# Altium footprint library WA-BCPH.PcbLib: 4 footprints
Each footprint in its own frame and in the unit in brackets; x right, y up, seen from the top. Pads: shape width x height; smd on the part's side, far side on the other; paste and mask are expansions set on the pad; w line width, h text height; cw(c..) or ccw(c..) is an arc to the next point about the centre after c.
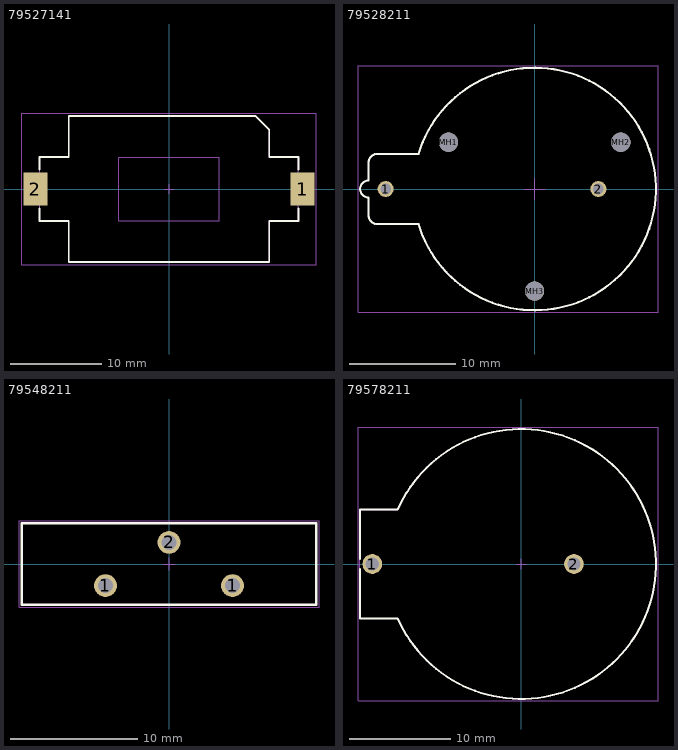
[diagram p0: the footprints below, top view; thin cyan lines are the x and y axes]

## 79527141 [mm] "Battery Holder"
height 5.65
pads (2):
  rect 2.6x3.6 smd: 1(14.65,0) 2(-14.65,0)
Top Overlay:
  lines w0.2: -14.2,-2.15 -14.2,-3.5 -11,-3.5 -11,-8 11,-8 11,-3.5 14.2,-3.5 14.2,-2.15 ; -14.2,2.15 -14.2,3.5 -11,3.5 -11,8 9.5,8 11,6.5 11,3.5 14.2,3.5 14.2,2.15
Notes:
  lines w0.1: 1.5,3.5 5.5,3.5 ; 5.5,3.5 -5.5,3.5 -5.5,-3.5 5.5,-3.5 5.5,3.5
  text "ZONE FOR ADHESIVE FIXATION" at -7,-4.989 h1
Top Designator:
  text ".Designator" at -7.498,-0.5 h1.5
Top Component Outline:
  lines w0.1: -14.2,-3.5 -14.2,3.5 -11,3.5 -11,8 9.5,8 11,6.5 11,3.5 14.2,3.5 14.2,-3.5 11,-3.5 11,-8 -11,-8 -11,-3.5 -14.2,-3.5
Top 3D Body:
  lines w0.1: -14.2,-3.5 -11,-3.5 -11,-8 11,-8 11,-3.5 14.2,-3.5 14.2,3.5 11,3.5 11,6.5 9.5,8 -11,8 -11,3.5 -14.2,3.5 -14.2,-3.5
Top Courtyard:
  lines w0.05: -0.5,0 0.5,0 ; 0,-0.5 0,0.5 ; -16.15,-8.3 16.15,-8.3 16.15,8.3 -16.15,8.3 -16.15,-8.3
Top Glue Points:
  lines w0.1: 1.5,3.5 5.5,3.5 ; 5.5,3.5 -5.5,3.5 -5.5,-3.5 5.5,-3.5 5.5,3.5
3D body "79527141 (rev1).stp": height 5.66, standoff 0.01, extent -15.95,-8 15.95,8

## 79528211 [mm] "Battery Holder"
height 8.8
pads (5):
  round 1.5 hole 1: 1(-14,0) 2(6,0)
  round 1.8 hole 1.8 unplated: MH1(-8.1,4.4) MH2(8.1,4.4) MH3(0,-9.6)
Top Overlay:
  lines w0.2: -10.912,-3.3 ccw(c-10.912,-3.3) -10.912,-3.3 ; -10.912,-3.3 ccw(c0,0) -10.912,3.3 ; -10.912,-3.3 -14.8,-3.3 cw(c-14.8,-2.5) -15.6,-2.5 -15.6,-0.8 cw(c-15.6,0) -15.6,0.8 -15.6,2.5 cw(c-14.8,2.5) -14.8,3.3 -10.912,3.3 ; -10.912,3.3 ccw(c-10.912,3.3) -10.912,3.3
Top Designator:
  text ".Designator" at -7.498,-0.5 h1.5
Top Component Outline:
  lines w0.1: -10.912,-3.3 ccw(c-10.912,-3.3) -10.912,-3.3 ; -10.912,-3.3 ccw(c0,0) -10.912,3.3 ; -10.912,-3.3 -14.8,-3.3 cw(c-14.8,-2.5) -15.6,-2.5 -15.6,-0.8 cw(c-15.6,0) -15.6,0.8 -15.6,2.5 cw(c-14.8,2.5) -14.8,3.3 -10.912,3.3 ; -10.912,3.3 ccw(c-10.912,3.3) -10.912,3.3
Top 3D Body:
  lines w0.1: -10.912,-3.3 ccw(c-10.912,-3.3) -10.912,-3.3 ; -10.912,-3.3 ccw(c0,0) -10.912,3.3 ; -10.912,-3.3 -14.8,-3.3 cw(c-14.8,-2.5) -15.6,-2.5 -15.6,-0.8 cw(c-15.6,0) -15.6,0.8 -15.6,2.5 cw(c-14.8,2.5) -14.8,3.3 -10.912,3.3 ; -10.912,3.3 ccw(c-10.912,3.3) -10.912,3.3
Top Courtyard:
  lines w0.05: -16.6,-11.6 -16.6,11.6 11.6,11.6 11.6,-11.6 -16.6,-11.6
  lines w0.1: -1,0 1,0 ; 0,-1 0,1
3D body "79528211 (rev1).stp": height 8.5, standoff -3.3, extent -16.4,-11.4 11.4,11.4

## 79548211 [mm] "Battery Holder"
height 18.1
pads (3):
  round 1.8 hole 1.2: 1(-5,-1.7) 1(5,-1.7) 2(0,1.7)
Top Overlay:
  lines w0.2: -11.6,-3.2 -11.6,3.2 11.6,3.2 11.6,-3.2 -11.6,-3.2
Top Designator:
  text ".Designator" at -7.498,-0.5 h1.5
Top Component Outline:
  lines w0.1: -11.6,-3.2 11.6,-3.2 11.6,3.2 -11.6,3.2 -11.6,-3.2
Top 3D Body:
  lines w0.1: -11.6,-3.2 -11.6,3.2 11.6,3.2 11.6,-3.2 -11.6,-3.2
Top Courtyard:
  lines w0.05: -0.5,0 0.5,0 ; 0,-0.5 0,0.5 ; -11.8,-3.4 11.8,-3.4 11.8,3.4 -11.8,3.4 -11.8,-3.4
3D body "79548211 (rev1).stp": height 18.15, standoff -2.95, extent -11.249,-3.2 11.249,3.2

## 79578211 [mm] "Battery Holder"
height 9.5
pads (2):
  round 1.95 hole 1.3: 1(-14.755,0) 2(5.245,0)
Top Overlay:
  lines w0.2: -15.975,-0.5 -15.975,-5.4 -12.236,-5.4 ; -15.975,0.5 -15.975,5.4 -12.237,5.4 ; -12.236,-5.4 ccw(c0,0) -12.237,5.399
Top Designator:
  text ".Designator" at -7.498,-0.5 h1.5
Top Component Outline:
  lines w0.1: -12.236,-5.4 ccw(c0,0) -12.237,5.399 ; -12.237,5.4 -15.975,5.4 -15.975,-5.4 -12.236,-5.4
Top 3D Body:
  lines w0.1: -12.236,-5.4 ccw(c0,0) -12.237,5.399 ; -12.237,5.4 -15.975,5.4 -15.975,-5.4 -12.236,-5.4
Top Courtyard:
  lines w0.05: -0.5,0 0.5,0 ; 0,-0.5 0,0.5 ; -16.17,-13.575 13.575,-13.575 13.575,13.575 -16.17,13.575 -16.17,-13.575
3D body "79578211 (rev1).stp": height 9.6, standoff -3.2, extent -15.97,-13.375 13.375,13.375